# EAGLE library part RF24L01 (library lieven)
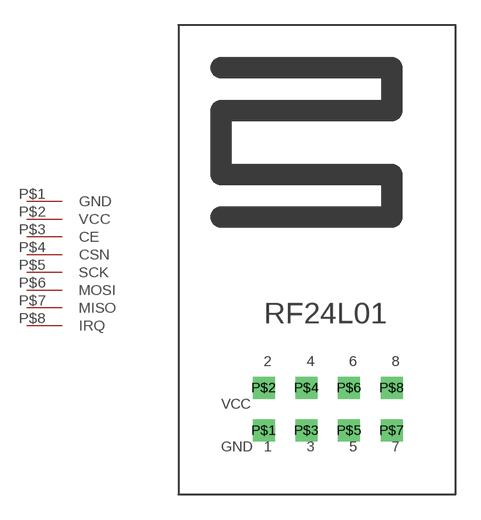
[diagram p10: symbol with the pads of ML8; footprint ML8]

Designator prefix -

## RF24L01MODULE  [ML8]
P$1  GND
P$2  VCC
P$3  CE
P$4  CSN
P$5  SCK
P$6  MOSI
P$7  MISO
P$8  IRQ

## Footprint ML8 (pad centres in mm)
drill 0.8 square: P$1 0,0; P$2 0,2.54; P$3 2.54,0; P$4 2.54,2.54; P$5 5.08,0; P$6 5.08,2.54; P$7 7.62,0; P$8 7.62,2.54